# EAGLE library part 9-AXIS_IMU (library quadparts_Jason)
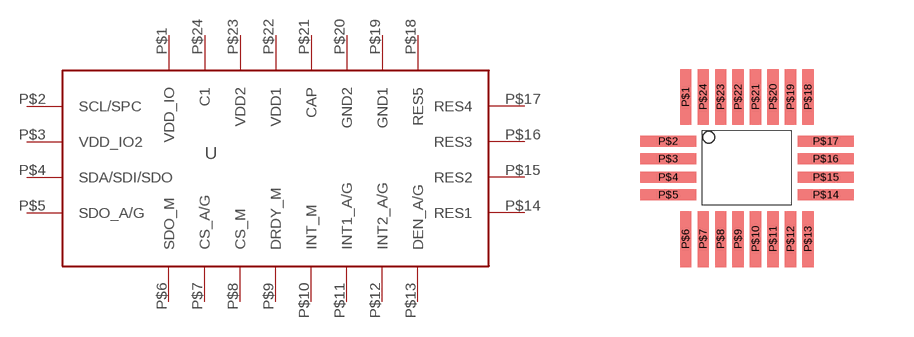
[diagram p0: symbol with the pads of 9-AXIS_IMU; footprint 9-AXIS_IMU]

Designator prefix -

## 9-AXIS_IMU (CREATOR: Jason_Wong; DIST: Digikey; DISTPN: 497-14946-1-ND; MFR: STMicroelectronics; MPN: LSM9DS1TR)  [9-AXIS_IMU]
P$1  VDD_IO
P$2  SCL/SPC
P$3  VDD_IO2
P$4  SDA/SDI/SDO
P$5  SDO_A/G
P$6  SDO_M
P$7  CS_A/G
P$8  CS_M
P$9  DRDY_M
P$10  INT_M
P$11  INT1_A/G
P$12  INT2_A/G
P$13  DEN_A/G
P$14  RES1
P$15  RES2
P$16  RES3
P$17  RES4
P$18  RES5
P$19  GND1
P$20  GND2
P$21  CAP
P$22  VDD1
P$23  VDD2
P$24  C1

## Footprint 9-AXIS_IMU (pad centres in mm)
smd 0.28 x 1.4: P$1 -1.53,1.775; P$6 -1.53,-1.775; P$7 -1.092,-1.775; P$8 -0.655,-1.775; P$9 -0.218,-1.775; P$10 0.219,-1.775; P$11 0.656,-1.775; P$12 1.093,-1.775; P$13 1.53,-1.775; P$18 1.53,1.775; P$19 1.093,1.775; P$20 0.656,1.775; P$21 0.219,1.775; P$22 -0.218,1.775; P$23 -0.655,1.775; P$24 -1.092,1.775
smd 1.4 x 0.28: P$2 -1.97,0.67; P$3 -1.97,0.23; P$4 -1.97,-0.23; P$5 -1.97,-0.67; P$14 1.97,-0.67; P$15 1.97,-0.23; P$16 1.97,0.23; P$17 1.97,0.67